# EAGLE library part NRF24L01_MODULE (library under_construction)
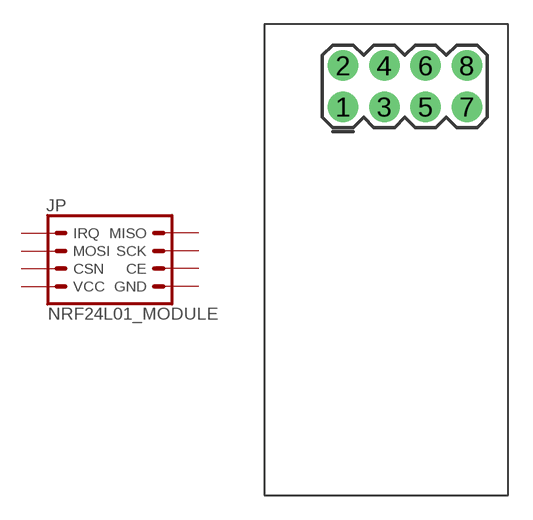
[diagram p0: symbol with the pads of 2X4; footprint 2X4]

Designator prefix JP

## NRF24L01_MODULE  [2X4]
1  IRQ  pas
2  MISO  pas
3  MOSI  pas
4  SCK  pas
5  CSN  pas
6  CE  pas
7  VCC  pas
8  GND  pas

## Footprint 2X4 (pad centres in mm)
drill 1.016 pad 1.88: 1 -3.81,-1.27; 2 -3.81,1.27; 3 -1.27,-1.27; 4 -1.27,1.27; 5 1.27,-1.27; 6 1.27,1.27; 7 3.81,-1.27; 8 3.81,1.27